# Altium integrated library CC0402FRNPO9BN560.IntLib: 1 symbol
Pins are listed as number, name and electrical type; pins without a type are passive.

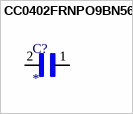
[diagram p0: symbol CC0402FRNPO9BN560]

## CC0402FRNPO9BN560
designator C?
0402 56 pF 50 V Â±1 % Tolerance NP0 SMT Multilayer Ceramic Capacitor; MF: Yageo; MP: CC0402FRNPO9BN560; Purchase-URL: https://pricing.snapeda.com/search/part/CC0402FRNPO9BN560/?ref=eda; Value: *; SnapEDA_Link: https://www.snapeda.com/parts/CC0402FRNPO9BN560/Yageo/view-part/?ref=snap; Package: 0402 Yageo; Availability: In Stock; Price: None; Check_prices: https://www.snapeda.com/parts/CC0402FRNPO9BN560/Yageo/view-part/?ref=eda
footprint CAPC1005X55N
pins: 1, 2